# Altium footprint library CONN_9-2304372-1_9-2304372-1(Primary).PcbLib: 1 footprints
Each footprint in its own frame and in the unit in brackets; x right, y up, seen from the top. Pads: shape width x height; smd on the part's side, far side on the other; paste and mask are expansions set on the pad; w line width, h text height; cw(c..) or ccw(c..) is an arc to the next point about the centre after c.
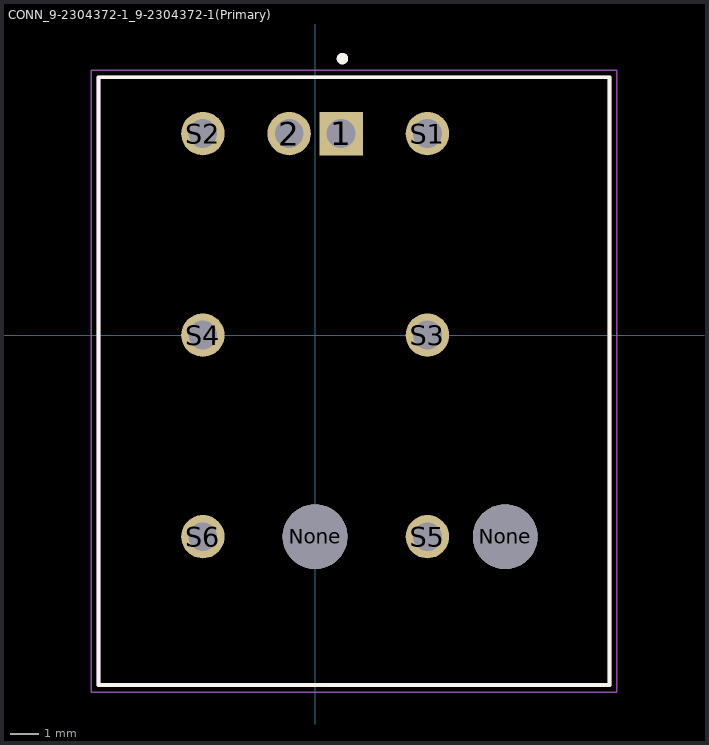
[diagram p0: the footprint, top view; thin cyan lines are the x and y axes]

## CONN_9-2304372-1_9-2304372-1(Primary) [mm]
pads (10):
  rect 1.508x1.508 hole 1: 1(0.9,7)
  round 1.508 hole 1: 2(-0.9,7) S1(3.9,7) S2(-3.9,7) S3(3.9,0) S4(-3.9,0) S5(3.9,-7) S6(-3.9,-7)
  round 2.25 hole 2.25 unplated: None(0,-7) None(6.6,-7)
Top Overlay:
  circle w0.2: c0.95,9.6 r0.1
  lines w0.127: -7.525,-12.15 10.225,-12.15 10.225,8.95 -7.525,8.95 -7.525,-12.15
Mechanical 1:
  lines w0.127: -7.525,-12.15 10.225,-12.15 10.225,8.95 -7.525,8.95 -7.525,-12.15
Mechanical 4:
  lines w0.05: -7.775,-12.4 10.475,-12.4 10.475,9.2 -7.775,9.2 -7.775,-12.4
3D body "c-9-2304372-1-a-3d.stp": height 13.75, standoff -2.75, extent -7.544,-12.185 10.206,8.915